# Altium integrated library BZX384C5V6-E3-08.IntLib: 1 symbol
Pins are listed as number, name and electrical type; pins without a type are passive.

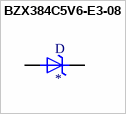
[diagram p0: symbol BZX384C5V6-E3-08]

## BZX384C5V6-E3-08
designator D
Zener Diode 5.6V 200mW Â±5% Surface Mount SOD-323; MF: Vishay; MP: BZX384C5V6-E3-08; Package: SOD-323 Vishay Semiconductor; Availability: Unavailable; Value: *; SnapEDA_Link: https://www.snapeda.com/parts/BZX384C5V6-E3-08/Vishay%20Semiconductor%20Diodes%20Division/view-part/823270/?ref=snap; Price: None
footprint SOD-323
pins: A, C